# Altium schematic symbol library Optoisolator1.Schlib: 1 symbol
Pins are listed as number, name and electrical type; pins without a type are passive.

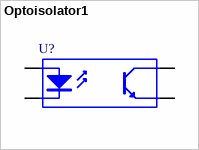
[diagram p0: symbol Optoisolator1]

## Optoisolator1
designator U?
4-Pin Phototransistor Optocoupler
pins: 1 A "Anode", 2 K "Cathode", 3 E "Emitter", 4 C "Collector"